# Altium footprint library 74hc.PcbLib: 19 footprints (part 2 of 2)
Each footprint in its own frame and in the unit in brackets; x right, y up, seen from the top. Pads: shape width x height; smd on the part's side, far side on the other; paste and mask are expansions set on the pad; w line width, h text height; cw(c..) or ccw(c..) is an arc to the next point about the centre after c.
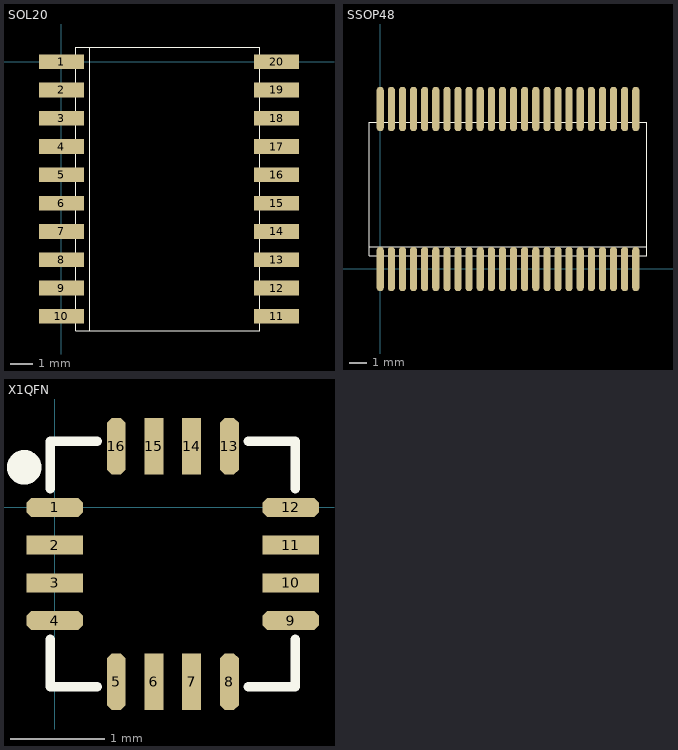
[diagram p1: the footprints below, top view; thin cyan lines are the x and y axes]

## SOL20 [mil]
pads (20):
  rect 80x26 smd: 1(0,0) 2(0,-50) 3(0,-100) 4(0,-150) 5(0,-200) 6(0,-250) 7(0,-300) 8(0,-350) 9(0,-400) 10(0,-450) 11(380,-450) 12(380,-400) 13(380,-350) 14(380,-300) 15(380,-250) 16(380,-200) 17(380,-150) 18(380,-100) 19(380,-50) 20(380,0)
Top Overlay:
  lines w1: 0,-450 25,-450 ; 0,-400 25,-400 ; 0,-350 25,-350 ; 0,-300 25,-300 ; 0,-250 25,-250 ; 0,-200 25,-200 ; 0,-150 25,-150 ; 0,-100 25,-100 ; 0,-50 25,-50 ; 0,0 25,0 ; 50,-475 50,25 25,25 ; 350,-450 375,-450 ; 350,-400 375,-400 ; 350,-350 375,-350 ; 350,-300 375,-300 ; 350,-250 375,-250 ; 350,-200 375,-200 ; 350,-150 375,-150 ; 350,-100 375,-100 ; 350,-50 375,-50 ; 350,0 375,0 ; 25,25 25,-475 350,-475 350,25 25,25

## SSOP48 [mil]
pads (48):
  oval 16x100 smd: 1(0,0) 2(25,0) 3(50,0) 4(75,0) 5(100,0) 6(125,0) 7(150,0) 8(175,0) 9(200,0) 10(225,0) 11(250,0) 12(275,0) 13(300,0) 14(325,0) 15(350,0) 16(375,0) 17(400,0) 18(425,0) 19(450,0) 20(475,0) 21(500,0) 22(525,0) 23(550,0) 24(575,0) 25(575,360) 26(550,360) 27(525,360) 28(500,360) 29(475,360) 30(450,360) 31(425,360) 32(400,360) 33(375,360) 34(350,360) 35(325,360) 36(300,360) 37(275,360) 38(250,360) 39(225,360) 40(200,360) 41(175,360) 42(150,360) 43(125,360) 44(100,360) 45(75,360) 46(50,360) 47(25,360) 48(0,360)
Top Overlay:
  lines w1: -25,50 600,50 ; -25,30 -25,330 600,330 600,30 -25,30

## X1QFN [mm]
pads (16):
  oct 0.6x0.2 smd: 1(0,0) 4(0,-1.2) 9(2.5,-1.2) 12(2.5,0)
  rect 0.6x0.2 smd: 2(0,-0.4) 3(0,-0.8) 10(2.5,-0.8) 11(2.5,-0.4)
  oct 0.2x0.6 smd: 5(0.65,-1.85) 8(1.85,-1.85) 13(1.85,0.65) 16(0.65,0.65)
  rect 0.2x0.6 smd: 6(1.05,-1.85) 7(1.45,-1.85) 14(1.45,0.65) 15(1.05,0.65)
Top Overlay:
  circle w0.254: c-0.325,0.425 r0.056
  lines w0.1: -0.05,-1.4 -0.05,-1.9 0.45,-1.9 ; -0.05,0.2 -0.05,0.7 0.45,0.7 ; 2.05,-1.9 2.55,-1.9 2.55,-1.4 ; 2.05,0.7 2.55,0.7 2.55,0.2
3D body: height 0.5, standoff 0.02, extent 0,-1.85 2.5,0.65